# Altium integrated library LM49120TL.IntLib: 1 symbol
Pins are listed as number, name and electrical type; pins without a type are passive.

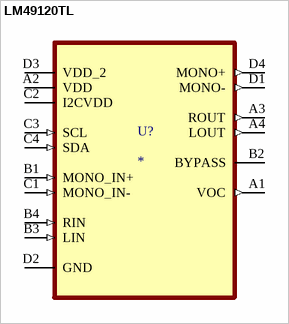
[diagram p0: symbol LM49120TL]

## LM49120TL
designator U?
Amplifier; MP: LM49120TL; Package: None; Price: None; Value: *; Availability: Unavailable
footprint BGA16C50P4X4_200X200X60
pins: A1 VOC (out), A2 VDD (power), A3 ROUT (out), A4 LOUT (out), B1 MONO_IN+ (in), B2 BYPASS, B3 LIN (in), B4 RIN (in), C1 MONO_IN- (in), C2 I2CVDD (power), C3 SCL (in), C4 SDA (in), D1 MONO- (out), D2 GND, D3 VDD_2 (power), D4 MONO+ (out)